# Altium schematic symbol library MP2602.SchLib: 1 symbol
Pins are listed as number, name and electrical type; pins without a type are passive.

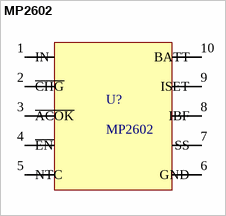
[diagram p0: symbol MP2602]

## MP2602
designator U?
28V, 1A Linear Li-Ion Battery Charger with Trickle Charge
footprint MP2602
pins: 1 IN, 2 ~{CHG}, 3 ~{ACOK}, 4 ~{EN}, 5 NTC, 6 GND, 7 SS, 8 IBF, 9 ISET, 10 BATT